# Altium footprint library TO-263-7-THIN.PcbLib: 1 footprints
Each footprint in its own frame and in the unit in brackets; x right, y up, seen from the top. Pads: shape width x height; smd on the part's side, far side on the other; paste and mask are expansions set on the pad; w line width, h text height; cw(c..) or ccw(c..) is an arc to the next point about the centre after c.
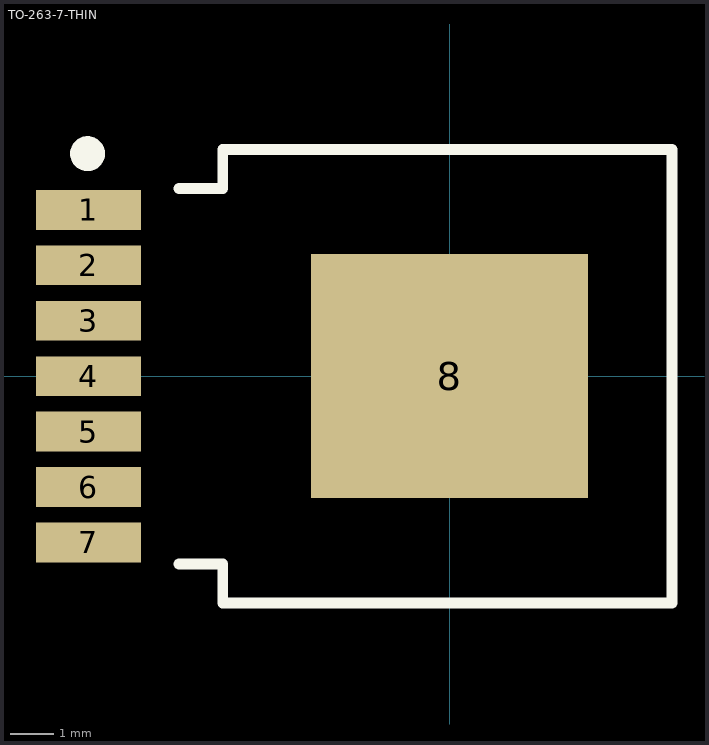
[diagram p0: the footprint, top view; thin cyan lines are the x and y axes]

## TO-263-7-THIN [mm] "TO-263-7 Thin"
pads (8):
  rect 2.41x0.91 smd paste-0.1: 1(-8.28,3.81) 2(-8.28,2.54) 3(-8.28,1.27) 4(-8.28,0) 5(-8.28,-1.27) 6(-8.28,-2.54) 7(-8.28,-3.81)
  rect 6.35x5.59 smd paste-4: 8(0,0)
Top Overlay:
  circle w0.4: c-8.3,5.1 r0.2
  lines w0.25: -6.2,-4.3 -5.2,-4.3 -5.2,-5.2 5.1,-5.2 5.1,5.2 -5.2,5.2 -5.2,4.3 -6.2,4.3
Top Paste:
  region: 2.9,2.6 2.9,0.2 0.2,0.2 0.2,2.6
  region: 2.9,-2.6 2.9,-0.2 0.2,-0.2 0.2,-2.6
  region: -2.9,2.6 -2.9,0.2 -0.2,0.2 -0.2,2.6
  region: -2.9,-2.6 -2.9,-0.2 -0.2,-0.2 -0.2,-2.6
3D body "TO-263-7-THIN.stp": height 2, standoff -0.17, extent -9.031,-5.08 4.98,5.08